# Altium integrated library Silicon Labs Small Form Factor MCUs.IntLib: 100 symbols (part 2 of 5)
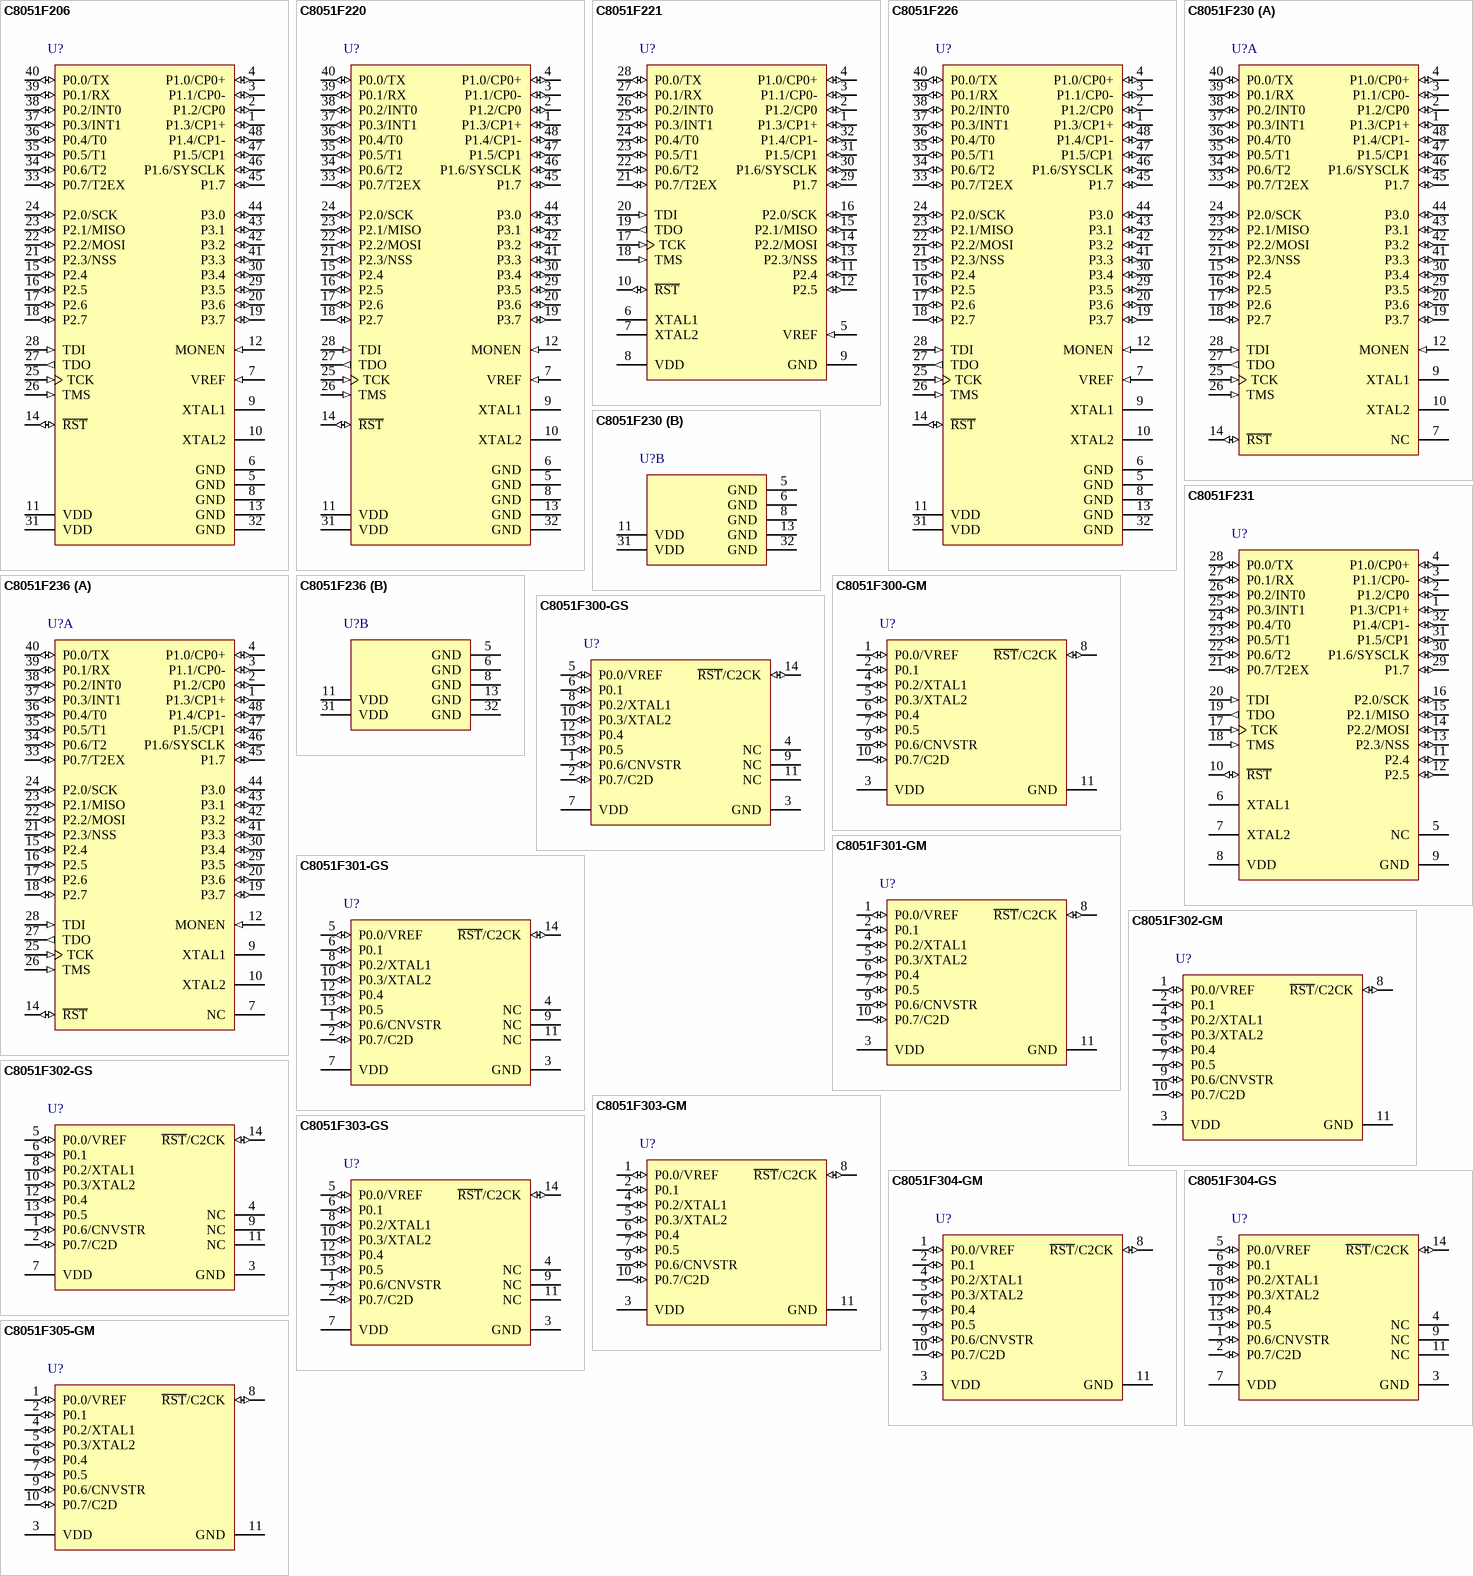
[diagram p5: symbols C8051F206 to C8051F305-GM]

## C8051F305-GM
designator U?
Mixed Signal ISP Flash MCU Family, 25 MHz, 0.25 kB RAM, 2 kB Flash, -40 to 85 degC, 11-pin QFN; Manufacturer: Silicon Labs; PartNumber: C8051F305-GM; AEC-Q100: FALSE; Comparators: 1; Debug Interface: C2; Dig I/O Pins: 8; Flash: 2 kB; Internal Osc. Accuracy: +/-20%; MCU Core: 8051; MHz: 25; PCA Channels: 3; RAM: 0.25 kB; Sub-Family: Small Form Factor MCUs; DatasheetVersion: Rev. 2.9; PackageReference: QFN-11; PackageDescription: 11-Pin Quad-Flat No-Leads Package, Body 3 x 3 mm, Pitch 0.5 mm; Supplier 1: Digi-Key; Supplier Part Number 1: 336-1251-ND; Supplier 2: Mouser; Supplier Part Number 2: 634-C8051F305-GM; Temp Sensor: FALSE; Timers (16-bit): 3; Mounting Technology: Surface Mount; Code_JEDEC: MO-243; Code_IPC: J-STD-020C; ComponentLink1Description: Manufacturer URL; ComponentLink1URL: http://www.silabs.com/; ComponentLink2Description: Datasheet; ComponentLink2URL: http://www.silabs.com/Support Documents/TechnicalDocs/C8051F30x.pdf; ComponentLink3Description: Package Specification; ComponentLink3URL: http://www.silabs.com/Support%20Documents/TechnicalDocs/Si3462.pdf
footprint SLAB-QFN-11-1350x2250TP_N (QFN, 11-Leads, Body 3x3mm, Pitch 0.5mm, Thermal Pad 3x1.35mm, IPC Medium Density)
footprint SLAB-QFN-11-1350x2250TP_L (QFN, 11-Leads, Body 3x3mm, Pitch 0.5mm, Thermal Pad 3x1.35mm, IPC High Density)
footprint SLAB-QFN-11-1350x2250TP_M (QFN, 11-Leads, Body 3x3mm, Pitch 0.5mm, Thermal Pad 3x1.35mm, IPC Low Density)
pins: 1 P0.0/VREF (io), 2 P0.1 (io) "Port 0.1.", 3 VDD (power) "Power Supply Voltage", 4 P0.2/XTAL1 (io), 5 P0.3/XTAL2 (io), 6 P0.4 (io) "Port 0.4.", 7 P0.5 (io) "Port 0.5.", 8 ~{RST}/C2CK (io), 9 P0.6/CNVSTR (io), 10 P0.7/C2D (io), 11 GND (power) "Ground."

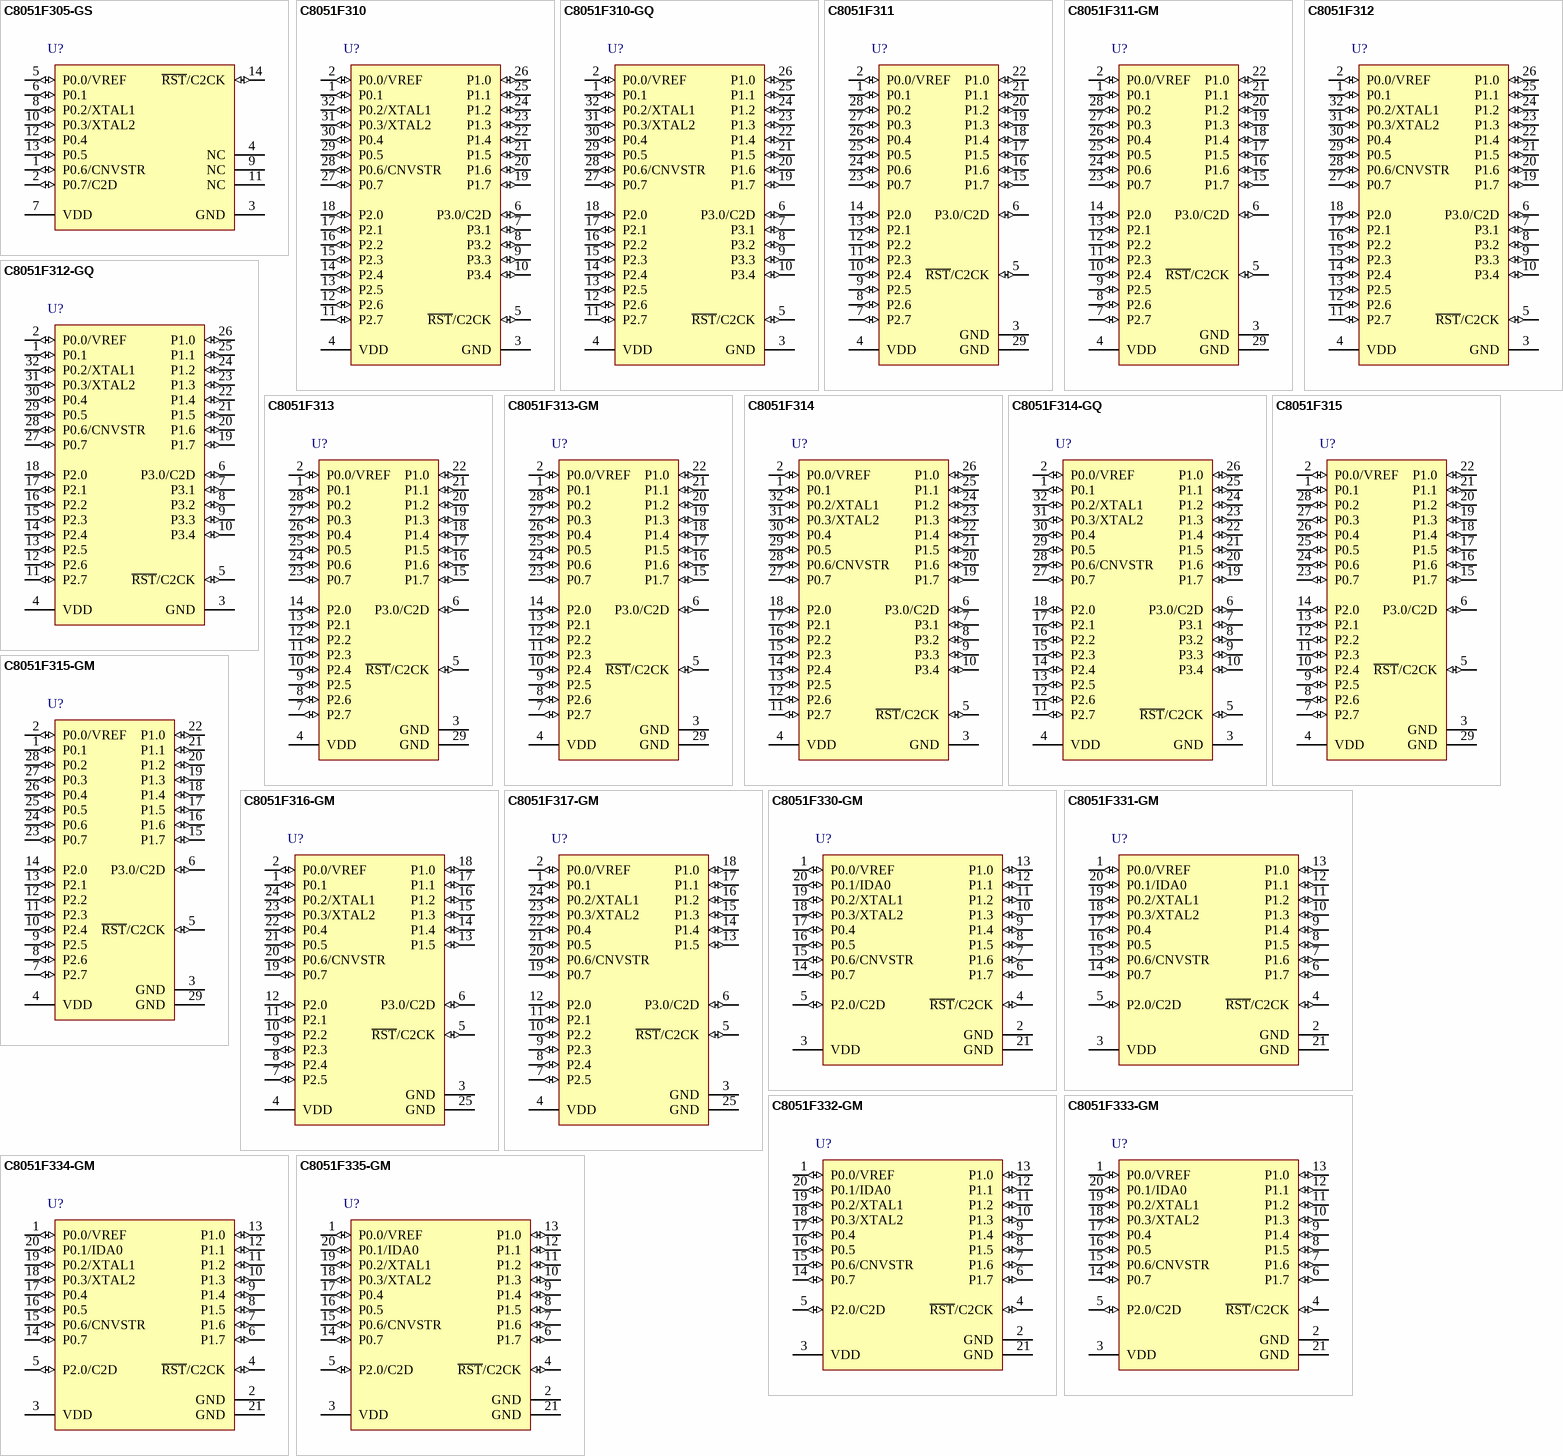
[diagram p1: symbols C8051F305-GS to C8051F335-GM]

## C8051F305-GS
designator U?
Mixed Signal ISP Flash MCU Family, 25 MHz, 0.25 kB RAM, 2 kB Flash, -40 to 85 degC, 14-pin SOIC; Manufacturer: Silicon Labs; PartNumber: C8051F305-GS; AEC-Q100: FALSE; Comparators: 1; Debug Interface: C2; Dig I/O Pins: 8; Flash: 2 kB; Internal Osc. Accuracy: +/-20%; MCU Core: 8051; MHz: 25; PCA Channels: 3; RAM: 0.25 kB; Sub-Family: Small Form Factor MCUs; DatasheetVersion: Rev. 2.9; PackageReference: SOIC-14; PackageDescription: 14-Pin Small-Outline Integrated Circuit, Body 8.65 x 3.9 mm, Pitch 1.27 mm; Supplier 1: Digi-Key; Supplier Part Number 1: 336-1540-5-ND; Supplier 2: Mouser; Supplier Part Number 2: 634-C8051F305-GS; Temp Sensor: FALSE; Timers (16-bit): 3; Mounting Technology: Surface Mount; Code_JEDEC: MS012; Code_IPC: J-STD-020; ComponentLink1Description: Manufacturer URL; ComponentLink1URL: http://www.silabs.com/; ComponentLink2Description: Datasheet; ComponentLink2URL: http://www.silabs.com/Support Documents/TechnicalDocs/C8051F30x.pdf; ComponentLink3Description: Package Specification; ComponentLink3URL: http://www.silabs.com/Support Documents/TechnicalDocs/C8051T60x.pdf
footprint SLAB-SOIC-14_N (SOIC, 14-Leads, Body 8.65x3.9mm, Pitch 1.27mm, IPC Medium Density)
footprint SLAB-SOIC-14_L (SOIC, 14-Leads, Body 8.65x3.9mm, Pitch 1.27mm, IPC High Density)
footprint SLAB-SOIC-14_M (SOIC, 14-Leads, Body 8.65x3.9mm, Pitch 1.27mm, IPC Low Density)
pins: 1 P0.6/CNVSTR (io), 2 P0.7/C2D (io), 3 GND (power) "Ground.", 4 NC, 5 P0.0/VREF (io), 6 P0.1 (io) "Port 0.1. See Section 12 for complete description.", 7 VDD (power) "Power Supply Voltage.", 8 P0.2/XTAL1 (io), 9 NC, 10 P0.3/XTAL2 (io), 11 NC, 12 P0.4 (io) "Port 0.4. See Section 12 for complete description.", 13 P0.5 (io) "Port 0.5. See Section 12 for complete description.", 14 ~{RST}/C2CK (io)

## C8051F310
designator U?
ISP Flash MCU Family, 25 MHz, 1.25 kB RAM, 16 kB Flash, -40 to 85 degC, 32-pin QFP; Manufacturer: Silicon Labs; PartNumber: C8051F310; AEC-Q100: FALSE; Comparators: 2; Debug Interface: C2; Dig I/O Pins: 29; Flash: 16 kB; Internal Osc. Accuracy: +/-2%; MCU Core: 8051; MHz: 25; PCA Channels: 5; RAM: 1.25 kB; Temp Sensor: TRUE; Timers (16-bit): 4; Sub-Family: Small Form Factor MCUs; DatasheetVersion: Rev. 1.7; PackageReference: LQFP-32; PackageDescription: 32-Pin Low-Profile Quad Flat Pack, Body 7 x 7 mm, Pitch 0.8 mm; Supplier 1: Digi-Key; Supplier Part Number 1: C8051F310-ND; Supplier 2: Mouser; Supplier Part Number 2: 634-C8051F310; Mounting Technology: Surface Mount; Code_JEDEC: MS-026; Code_IPC: J-STD-020; ComponentLink1Description: Manufacturer URL; ComponentLink1URL: http://www.silabs.com/; ComponentLink2Description: Datasheet; ComponentLink2URL: http://www.silabs.com/Support Documents/TechnicalDocs/C8051F31x.pdf; ComponentLink3Description: Package Specification; ComponentLink3URL: http://www.silabs.com/Support%20Documents/TechnicalDocs/C8051F38x.pdf
footprint SLAB-LQFP-32_N (QFP, 32-Leads, Body 7x7mm, Pitch 0.8mm, IPC Medium Density)
footprint SLAB-LQFP-32_L (QFP, 32-Leads, Body 7x7mm, Pitch 0.8mm, IPC High Density)
footprint SLAB-LQFP-32_M (QFP, 32-Leads, Body 7x7mm, Pitch 0.8mm, IPC Low Density)
pins: 1 P0.1 (io) "Port 0.1.", 2 P0.0/VREF (io), 3 GND (power) "Ground.", 4 VDD (power) "Power Supply Voltage.", 5 ~{RST}/C2CK (io), 6 P3.0/C2D (io), 7 P3.1 (io) "Port 3.1.", 8 P3.2 (io) "Port 3.2.", 9 P3.3 (io) "Port 3.3.", 10 P3.4 (io) "Port 3.4.", 11 P2.7 (io) "Port 2.7.", 12 P2.6 (io) "Port 2.6.", 13 P2.5 (io) "Port 2.5.", 14 P2.4 (io) "Port 2.4.", 15 P2.3 (io) "Port 2.3.", 16 P2.2 (io) "Port 2.2.", 17 P2.1 (io) "Port 2.1.", 18 P2.0 (io) "Port 2.0.", 19 P1.7 (io) "Port 1.7.", 20 P1.6 (io) "Port 1.6.", 21 P1.5 (io) "Port 1.5.", 22 P1.4 (io) "Port 1.4.", 23 P1.3 (io) "Port 1.3.", 24 P1.2 (io) "Port 1.2.", 25 P1.1 (io) "Port 1.1.", 26 P1.0 (io) "Port 1.0.", 27 P0.7 (io) "Port 0.7.", 28 P0.6/CNVSTR (io), 29 P0.5 (io) "Port 0.5.", 30 P0.4 (io) "Port 0.4.", 31 P0.3/XTAL2 (io), 32 P0.2/XTAL1 (io)

## C8051F310-GQ
designator U?
ISP Flash MCU Family, 25 MHz, 1.25 kB RAM, 16 kB Flash, -40 to 85 degC, 32-pin QFP; Manufacturer: Silicon Labs; PartNumber: C8051F310-GQ; AEC-Q100: FALSE; Comparators: 2; Debug Interface: C2; Dig I/O Pins: 29; Flash: 16 kB; Internal Osc. Accuracy: +/-2%; MCU Core: 8051; MHz: 25; PCA Channels: 5; RAM: 1.25 kB; Temp Sensor: TRUE; Timers (16-bit): 4; Sub-Family: Small Form Factor MCUs; DatasheetVersion: Rev. 1.7; PackageReference: LQFP-32; PackageDescription: 32-Pin Low-Profile Quad Flat Pack, Body 7 x 7 mm, Pitch 0.8 mm; Supplier 1: Digi-Key; Supplier Part Number 1: 336-1252-ND; Supplier 2: Farnell; Supplier Part Number 2: 1528462; Supplier 3: Farnell; Supplier Part Number 3: 9685901; Supplier 4: Mouser; Supplier Part Number 4: 634-C8051F310-GQ; Mounting Technology: Surface Mount; Code_JEDEC: MS-026; Code_IPC: J-STD-020; ComponentLink1Description: Manufacturer URL; ComponentLink1URL: http://www.silabs.com/; ComponentLink2Description: Datasheet; ComponentLink2URL: http://www.silabs.com/Support Documents/TechnicalDocs/C8051F31x.pdf; ComponentLink3Description: Package Specification; ComponentLink3URL: http://www.silabs.com/Support%20Documents/TechnicalDocs/C8051F38x.pdf
footprint SLAB-LQFP-32_N (QFP, 32-Leads, Body 7x7mm, Pitch 0.8mm, IPC Medium Density)
footprint SLAB-LQFP-32_L (QFP, 32-Leads, Body 7x7mm, Pitch 0.8mm, IPC High Density)
footprint SLAB-LQFP-32_M (QFP, 32-Leads, Body 7x7mm, Pitch 0.8mm, IPC Low Density)
pins: 1 P0.1 (io) "Port 0.1.", 2 P0.0/VREF (io), 3 GND (power) "Ground.", 4 VDD (power) "Power Supply Voltage.", 5 ~{RST}/C2CK (io), 6 P3.0/C2D (io), 7 P3.1 (io) "Port 3.1.", 8 P3.2 (io) "Port 3.2.", 9 P3.3 (io) "Port 3.3.", 10 P3.4 (io) "Port 3.4.", 11 P2.7 (io) "Port 2.7.", 12 P2.6 (io) "Port 2.6.", 13 P2.5 (io) "Port 2.5.", 14 P2.4 (io) "Port 2.4.", 15 P2.3 (io) "Port 2.3.", 16 P2.2 (io) "Port 2.2.", 17 P2.1 (io) "Port 2.1.", 18 P2.0 (io) "Port 2.0.", 19 P1.7 (io) "Port 1.7.", 20 P1.6 (io) "Port 1.6.", 21 P1.5 (io) "Port 1.5.", 22 P1.4 (io) "Port 1.4.", 23 P1.3 (io) "Port 1.3.", 24 P1.2 (io) "Port 1.2.", 25 P1.1 (io) "Port 1.1.", 26 P1.0 (io) "Port 1.0.", 27 P0.7 (io) "Port 0.7.", 28 P0.6/CNVSTR (io), 29 P0.5 (io) "Port 0.5.", 30 P0.4 (io) "Port 0.4.", 31 P0.3/XTAL2 (io), 32 P0.2/XTAL1 (io)

## C8051F311
designator U?
ISP Flash MCU Family, 25 MHz, 1.25 kB RAM, 16 kB Flash, -40 to 85 degC, 28-pin QFN; Manufacturer: Silicon Labs; PartNumber: C8051F311; AEC-Q100: FALSE; Comparators: 2; Debug Interface: C2; Dig I/O Pins: 25; Flash: 16 kB; Internal Osc. Accuracy: +/-2%; MCU Core: 8051; PCA Channels: 5; RAM: 1.25 kB; Temp Sensor: TRUE; Timers (16-bit): 4; Sub-Family: Small Form Factor MCUs; DatasheetVersion: Rev. 1.7; PackageReference: QFN-28; PackageDescription: 28-Pin Quad-Flat No-Leads Package, Body 5 x 5 mm, Pitch 0.5 mm; Supplier 1: Digi-Key; Supplier Part Number 1: C8051F311-ND; Supplier 2: Mouser; Supplier Part Number 2: 634-C8051F311; MHz: 25; Mounting Technology: Surface Mount; ComponentLink1Description: Manufacturer URL; ComponentLink1URL: http://www.silabs.com/; ComponentLink2Description: Datasheet; ComponentLink2URL: http://www.silabs.com/Support Documents/TechnicalDocs/C8051F31x.pdf; ComponentLink3Description: Package Specification; ComponentLink3URL: http://www.silabs.com/Support%20Documents/TechnicalDocs/C8051F31x.pdf
footprint SLAB-QFN-28-3125x3125TP_B_V (QFN, 28-Leads, Body 5x5mm, Pitch 0.5mm, Thermal Pad 3.15x3.15mm)
pins: 1 P0.1 (io) "Port 0.1. See Section 13 for a complete description.", 2 P0.0/VREF (io), 3 GND (power) "Ground.", 4 VDD (power) "Power Supply Voltage.", 5 ~{RST}/C2CK (io), 6 P3.0/C2D (io) "2.7-3.6 V Core Supply Voltage Input. 3.3 V Voltage Regulator Output. See Section 5.", 7 P2.7 (io) "Port 2.7. See Section 13 for a complete description.", 8 P2.6 (io) "Port 2.6. See Section 13 for a complete description.", 9 P2.5 (io) "Port 2.5. See Section 13 for a complete description.", 10 P2.4 (io) "Port 2.4. See Section 13 for a complete description.", 11 P2.3 (io) "Port 2.3. See Section 13 for a complete description.", 12 P2.2 (io) "Port 2.2. See Section 13 for a complete description.", 13 P2.1 (io) "Port 2.1. See Section 13 for a complete description.", 14 P2.0 (io) "Port 2.0. See Section 13 for a complete description.", 15 P1.7 (io) "Port 1.7. See Section 13 for a complete description.", 16 P1.6 (io) "Port 1.6. See Section 13 for a complete description.", 17 P1.5 (io) "Port 1.5. See Section 13 for a complete description.", 18 P1.4 (io) "Port 1.4. See Section 13 for a complete description.", 19 P1.3 (io) "Port 1.3. See Section 13 for a complete description.", 20 P1.2 (io) "Port 1.2. See Section 13 for a complete description.", 21 P1.1 (io) "Port 1.1. See Section 13 for a complete description.", 22 P1.0 (io) "Port 1.0. See Section 13 for a complete description.", 23 P0.7 (io) "Port 0.7. See Section 13 for a complete description.", 24 P0.6 (io) "Port 0.6. See Section 13 for a complete description.", 25 P0.5 (io) "Port 0.5. See Section 13 for a complete description.", 26 P0.4 (io) "Port 0.4. See Section 13 for a complete description.", 27 P0.3 (io) "Port 0.3. See Section 13 for a complete description.", 28 P0.2 (io) "Port 0.2. See Section 13 for a complete description.", 29 GND (power)

## C8051F311-GM
designator U?
ISP Flash MCU Family, 25 MHz, 1.25 kB RAM, 16 kB Flash, -40 to 85 degC, 28-pin QFN; Manufacturer: Silicon Labs; PartNumber: C8051F311-GM; AEC-Q100: FALSE; Comparators: 2; Debug Interface: C2; Dig I/O Pins: 25; Flash: 16 kB; Internal Osc. Accuracy: +/-2%; MCU Core: 8051; PCA Channels: 5; RAM: 1.25 kB; Temp Sensor: TRUE; Timers (16-bit): 4; Sub-Family: Small Form Factor MCUs; DatasheetVersion: Rev. 1.7; PackageReference: QFN-28; PackageDescription: 28-Pin Quad-Flat No-Leads Package, Body 5 x 5 mm, Pitch 0.5 mm; Supplier 1: Digi-Key; Supplier Part Number 1: 336-1254-ND; Supplier 2: Farnell; Supplier Part Number 2: 9685910; Supplier 3: Newark; Supplier Part Number 3: 96K8389; Supplier 4: Mouser; Supplier Part Number 4: 634-C8051F311-GM; MHz: 25; Mounting Technology: Surface Mount; ComponentLink1Description: Manufacturer URL; ComponentLink1URL: http://www.silabs.com/; ComponentLink2Description: Datasheet; ComponentLink2URL: http://www.silabs.com/Support Documents/TechnicalDocs/C8051F31x.pdf; ComponentLink3Description: Package Specification; ComponentLink3URL: http://www.silabs.com/Support%20Documents/TechnicalDocs/C8051F31x.pdf
footprint SLAB-QFN-28-3125x3125TP_B_V (QFN, 28-Leads, Body 5x5mm, Pitch 0.5mm, Thermal Pad 3.15x3.15mm)
pins: 1 P0.1 (io) "Port 0.1. See Section 13 for a complete description.", 2 P0.0/VREF (io), 3 GND (power) "Ground.", 4 VDD (power) "Power Supply Voltage.", 5 ~{RST}/C2CK (io), 6 P3.0/C2D (io) "2.7-3.6 V Core Supply Voltage Input. 3.3 V Voltage Regulator Output. See Section 5.", 7 P2.7 (io) "Port 2.7. See Section 13 for a complete description.", 8 P2.6 (io) "Port 2.6. See Section 13 for a complete description.", 9 P2.5 (io) "Port 2.5. See Section 13 for a complete description.", 10 P2.4 (io) "Port 2.4. See Section 13 for a complete description.", 11 P2.3 (io) "Port 2.3. See Section 13 for a complete description.", 12 P2.2 (io) "Port 2.2. See Section 13 for a complete description.", 13 P2.1 (io) "Port 2.1. See Section 13 for a complete description.", 14 P2.0 (io) "Port 2.0. See Section 13 for a complete description.", 15 P1.7 (io) "Port 1.7. See Section 13 for a complete description.", 16 P1.6 (io) "Port 1.6. See Section 13 for a complete description.", 17 P1.5 (io) "Port 1.5. See Section 13 for a complete description.", 18 P1.4 (io) "Port 1.4. See Section 13 for a complete description.", 19 P1.3 (io) "Port 1.3. See Section 13 for a complete description.", 20 P1.2 (io) "Port 1.2. See Section 13 for a complete description.", 21 P1.1 (io) "Port 1.1. See Section 13 for a complete description.", 22 P1.0 (io) "Port 1.0. See Section 13 for a complete description.", 23 P0.7 (io) "Port 0.7. See Section 13 for a complete description.", 24 P0.6 (io) "Port 0.6. See Section 13 for a complete description.", 25 P0.5 (io) "Port 0.5. See Section 13 for a complete description.", 26 P0.4 (io) "Port 0.4. See Section 13 for a complete description.", 27 P0.3 (io) "Port 0.3. See Section 13 for a complete description.", 28 P0.2 (io) "Port 0.2. See Section 13 for a complete description.", 29 GND (power)

## C8051F312
designator U?
ISP Flash MCU Family, 25 MHz, 1.25 kB RAM, 8 kB Flash, -40 to 85 degC, 32-pin QFP; Manufacturer: Silicon Labs; PartNumber: C8051F312; AEC-Q100: FALSE; Comparators: 2; Debug Interface: C2; Dig I/O Pins: 29; Flash: 8 kB; Internal Osc. Accuracy: +/-2%; MCU Core: 8051; MHz: 25; PCA Channels: 5; RAM: 1.25 kB; Temp Sensor: TRUE; Timers (16-bit): 4; Sub-Family: Small Form Factor MCUs; DatasheetVersion: Rev. 1.7; PackageReference: LQFP-32; PackageDescription: 32-Pin Low-Profile Quad Flat Pack, Body 7 x 7 mm, Pitch 0.8 mm; Supplier 1: Digi-Key; Supplier Part Number 1: 336-1151-ND; Supplier 2: Mouser; Supplier Part Number 2: 634-C8051F312; Mounting Technology: Surface Mount; Code_JEDEC: MS-026; Code_IPC: J-STD-020; ComponentLink1Description: Manufacturer URL; ComponentLink1URL: http://www.silabs.com/; ComponentLink2Description: Datasheet; ComponentLink2URL: http://www.silabs.com/Support Documents/TechnicalDocs/C8051F31x.pdf; ComponentLink3Description: Package Specification; ComponentLink3URL: http://www.silabs.com/Support%20Documents/TechnicalDocs/C8051F38x.pdf
footprint SLAB-LQFP-32_N (QFP, 32-Leads, Body 7x7mm, Pitch 0.8mm, IPC Medium Density)
footprint SLAB-LQFP-32_L (QFP, 32-Leads, Body 7x7mm, Pitch 0.8mm, IPC High Density)
footprint SLAB-LQFP-32_M (QFP, 32-Leads, Body 7x7mm, Pitch 0.8mm, IPC Low Density)
pins: 1 P0.1 (io) "Port 0.1.", 2 P0.0/VREF (io), 3 GND (power) "Ground.", 4 VDD (power) "Power Supply Voltage.", 5 ~{RST}/C2CK (io), 6 P3.0/C2D (io), 7 P3.1 (io) "Port 3.1.", 8 P3.2 (io) "Port 3.2.", 9 P3.3 (io) "Port 3.3.", 10 P3.4 (io) "Port 3.4.", 11 P2.7 (io) "Port 2.7.", 12 P2.6 (io) "Port 2.6.", 13 P2.5 (io) "Port 2.5.", 14 P2.4 (io) "Port 2.4.", 15 P2.3 (io) "Port 2.3.", 16 P2.2 (io) "Port 2.2.", 17 P2.1 (io) "Port 2.1.", 18 P2.0 (io) "Port 2.0.", 19 P1.7 (io) "Port 1.7.", 20 P1.6 (io) "Port 1.6.", 21 P1.5 (io) "Port 1.5.", 22 P1.4 (io) "Port 1.4.", 23 P1.3 (io) "Port 1.3.", 24 P1.2 (io) "Port 1.2.", 25 P1.1 (io) "Port 1.1.", 26 P1.0 (io) "Port 1.0.", 27 P0.7 (io) "Port 0.7.", 28 P0.6/CNVSTR (io), 29 P0.5 (io) "Port 0.5.", 30 P0.4 (io) "Port 0.4.", 31 P0.3/XTAL2 (io), 32 P0.2/XTAL1 (io)

## C8051F312-GQ
designator U?
ISP Flash MCU Family, 25 MHz, 1.25 kB RAM, 8 kB Flash, -40 to 85 degC, 32-pin QFP; Manufacturer: Silicon Labs; PartNumber: C8051F312-GQ; AEC-Q100: FALSE; Comparators: 2; Debug Interface: C2; Dig I/O Pins: 29; Flash: 8 kB; Internal Osc. Accuracy: +/-2%; MCU Core: 8051; MHz: 25; PCA Channels: 5; RAM: 1.25 kB; Temp Sensor: TRUE; Timers (16-bit): 4; Sub-Family: Small Form Factor MCUs; DatasheetVersion: Rev. 1.7; PackageReference: LQFP-32; PackageDescription: 32-Pin Low-Profile Quad Flat Pack, Body 7 x 7 mm, Pitch 0.8 mm; Supplier 1: Digi-Key; Supplier Part Number 1: 336-1255-ND; Supplier 2: Farnell; Supplier Part Number 2: 1291502; Supplier 3: Mouser; Supplier Part Number 3: 634-C8051F312-GQ; Mounting Technology: Surface Mount; Code_JEDEC: MS-026; Code_IPC: J-STD-020; ComponentLink1Description: Manufacturer URL; ComponentLink1URL: http://www.silabs.com/; ComponentLink2Description: Datasheet; ComponentLink2URL: http://www.silabs.com/Support Documents/TechnicalDocs/C8051F31x.pdf; ComponentLink3Description: Package Specification; ComponentLink3URL: http://www.silabs.com/Support%20Documents/TechnicalDocs/C8051F38x.pdf
footprint SLAB-LQFP-32_N (QFP, 32-Leads, Body 7x7mm, Pitch 0.8mm, IPC Medium Density)
footprint SLAB-LQFP-32_L (QFP, 32-Leads, Body 7x7mm, Pitch 0.8mm, IPC High Density)
footprint SLAB-LQFP-32_M (QFP, 32-Leads, Body 7x7mm, Pitch 0.8mm, IPC Low Density)
pins: 1 P0.1 (io) "Port 0.1.", 2 P0.0/VREF (io), 3 GND (power) "Ground.", 4 VDD (power) "Power Supply Voltage.", 5 ~{RST}/C2CK (io), 6 P3.0/C2D (io), 7 P3.1 (io) "Port 3.1.", 8 P3.2 (io) "Port 3.2.", 9 P3.3 (io) "Port 3.3.", 10 P3.4 (io) "Port 3.4.", 11 P2.7 (io) "Port 2.7.", 12 P2.6 (io) "Port 2.6.", 13 P2.5 (io) "Port 2.5.", 14 P2.4 (io) "Port 2.4.", 15 P2.3 (io) "Port 2.3.", 16 P2.2 (io) "Port 2.2.", 17 P2.1 (io) "Port 2.1.", 18 P2.0 (io) "Port 2.0.", 19 P1.7 (io) "Port 1.7.", 20 P1.6 (io) "Port 1.6.", 21 P1.5 (io) "Port 1.5.", 22 P1.4 (io) "Port 1.4.", 23 P1.3 (io) "Port 1.3.", 24 P1.2 (io) "Port 1.2.", 25 P1.1 (io) "Port 1.1.", 26 P1.0 (io) "Port 1.0.", 27 P0.7 (io) "Port 0.7.", 28 P0.6/CNVSTR (io), 29 P0.5 (io) "Port 0.5.", 30 P0.4 (io) "Port 0.4.", 31 P0.3/XTAL2 (io), 32 P0.2/XTAL1 (io)

## C8051F313
designator U?
ISP Flash MCU Family, 25 MHz, 1.25 kB RAM, 8 kB Flash, -40 to 85 degC, 28-pin QFN; Manufacturer: Silicon Labs; PartNumber: C8051F313; AEC-Q100: FALSE; Comparators: 2; Debug Interface: C2; Dig I/O Pins: 25; Flash: 8 kB; Internal Osc. Accuracy: +/-2%; MCU Core: 8051; PCA Channels: 5; RAM: 1.25 kB; Temp Sensor: TRUE; Timers (16-bit): 4; Sub-Family: Small Form Factor MCUs; DatasheetVersion: Rev. 1.7; PackageReference: QFN-28; PackageDescription: 28-Pin Quad-Flat No-Leads Package, Body 5 x 5 mm, Pitch 0.5 mm; Supplier 1: Digi-Key; Supplier Part Number 1: 336-1152-ND; Supplier 2: Mouser; Supplier Part Number 2: 634-C8051F313; MHz: 25; Mounting Technology: Surface Mount; ComponentLink1Description: Manufacturer URL; ComponentLink1URL: http://www.silabs.com/; ComponentLink2Description: Datasheet; ComponentLink2URL: http://www.silabs.com/Support Documents/TechnicalDocs/C8051F31x.pdf; ComponentLink3Description: Package Specification; ComponentLink3URL: http://www.silabs.com/Support%20Documents/TechnicalDocs/C8051F31x.pdf
footprint SLAB-QFN-28-3125x3125TP_B_V (QFN, 28-Leads, Body 5x5mm, Pitch 0.5mm, Thermal Pad 3.15x3.15mm)
pins: 1 P0.1 (io) "Port 0.1. See Section 13 for a complete description.", 2 P0.0/VREF (io), 3 GND (power) "Ground.", 4 VDD (power) "Power Supply Voltage.", 5 ~{RST}/C2CK (io), 6 P3.0/C2D (io) "2.7-3.6 V Core Supply Voltage Input. 3.3 V Voltage Regulator Output. See Section 5.", 7 P2.7 (io) "Port 2.7. See Section 13 for a complete description.", 8 P2.6 (io) "Port 2.6. See Section 13 for a complete description.", 9 P2.5 (io) "Port 2.5. See Section 13 for a complete description.", 10 P2.4 (io) "Port 2.4. See Section 13 for a complete description.", 11 P2.3 (io) "Port 2.3. See Section 13 for a complete description.", 12 P2.2 (io) "Port 2.2. See Section 13 for a complete description.", 13 P2.1 (io) "Port 2.1. See Section 13 for a complete description.", 14 P2.0 (io) "Port 2.0. See Section 13 for a complete description.", 15 P1.7 (io) "Port 1.7. See Section 13 for a complete description.", 16 P1.6 (io) "Port 1.6. See Section 13 for a complete description.", 17 P1.5 (io) "Port 1.5. See Section 13 for a complete description.", 18 P1.4 (io) "Port 1.4. See Section 13 for a complete description.", 19 P1.3 (io) "Port 1.3. See Section 13 for a complete description.", 20 P1.2 (io) "Port 1.2. See Section 13 for a complete description.", 21 P1.1 (io) "Port 1.1. See Section 13 for a complete description.", 22 P1.0 (io) "Port 1.0. See Section 13 for a complete description.", 23 P0.7 (io) "Port 0.7. See Section 13 for a complete description.", 24 P0.6 (io) "Port 0.6. See Section 13 for a complete description.", 25 P0.5 (io) "Port 0.5. See Section 13 for a complete description.", 26 P0.4 (io) "Port 0.4. See Section 13 for a complete description.", 27 P0.3 (io) "Port 0.3. See Section 13 for a complete description.", 28 P0.2 (io) "Port 0.2. See Section 13 for a complete description.", 29 GND (power)

## C8051F313-GM
designator U?
ISP Flash MCU Family, 25 MHz, 1.25 kB RAM, 8 kB Flash, -40 to 85 degC, 28-pin QFN; Manufacturer: Silicon Labs; PartNumber: C8051F313-GM; AEC-Q100: FALSE; Comparators: 2; Debug Interface: C2; Dig I/O Pins: 25; Flash: 8 kB; Internal Osc. Accuracy: +/-2%; MCU Core: 8051; PCA Channels: 5; RAM: 1.25 kB; Temp Sensor: TRUE; Timers (16-bit): 4; Sub-Family: Small Form Factor MCUs; DatasheetVersion: Rev. 1.7; PackageReference: QFN-28; PackageDescription: 28-Pin Quad-Flat No-Leads Package, Body 5 x 5 mm, Pitch 0.5 mm; Supplier 1: Digi-Key; Supplier Part Number 1: 336-1256-ND; Supplier 2: Farnell; Supplier Part Number 2: 1291503; Supplier 3: Mouser; Supplier Part Number 3: 634-C8051F313-GM; MHz: 25; Mounting Technology: Surface Mount; ComponentLink1Description: Manufacturer URL; ComponentLink1URL: http://www.silabs.com/; ComponentLink2Description: Datasheet; ComponentLink2URL: http://www.silabs.com/Support Documents/TechnicalDocs/C8051F31x.pdf; ComponentLink3Description: Package Specification; ComponentLink3URL: http://www.silabs.com/Support%20Documents/TechnicalDocs/C8051F31x.pdf
footprint SLAB-QFN-28-3125x3125TP_B_V (QFN, 28-Leads, Body 5x5mm, Pitch 0.5mm, Thermal Pad 3.15x3.15mm)
pins: 1 P0.1 (io) "Port 0.1. See Section 13 for a complete description.", 2 P0.0/VREF (io), 3 GND (power) "Ground.", 4 VDD (power) "Power Supply Voltage.", 5 ~{RST}/C2CK (io), 6 P3.0/C2D (io) "2.7-3.6 V Core Supply Voltage Input. 3.3 V Voltage Regulator Output. See Section 5.", 7 P2.7 (io) "Port 2.7. See Section 13 for a complete description.", 8 P2.6 (io) "Port 2.6. See Section 13 for a complete description.", 9 P2.5 (io) "Port 2.5. See Section 13 for a complete description.", 10 P2.4 (io) "Port 2.4. See Section 13 for a complete description.", 11 P2.3 (io) "Port 2.3. See Section 13 for a complete description.", 12 P2.2 (io) "Port 2.2. See Section 13 for a complete description.", 13 P2.1 (io) "Port 2.1. See Section 13 for a complete description.", 14 P2.0 (io) "Port 2.0. See Section 13 for a complete description.", 15 P1.7 (io) "Port 1.7. See Section 13 for a complete description.", 16 P1.6 (io) "Port 1.6. See Section 13 for a complete description.", 17 P1.5 (io) "Port 1.5. See Section 13 for a complete description.", 18 P1.4 (io) "Port 1.4. See Section 13 for a complete description.", 19 P1.3 (io) "Port 1.3. See Section 13 for a complete description.", 20 P1.2 (io) "Port 1.2. See Section 13 for a complete description.", 21 P1.1 (io) "Port 1.1. See Section 13 for a complete description.", 22 P1.0 (io) "Port 1.0. See Section 13 for a complete description.", 23 P0.7 (io) "Port 0.7. See Section 13 for a complete description.", 24 P0.6 (io) "Port 0.6. See Section 13 for a complete description.", 25 P0.5 (io) "Port 0.5. See Section 13 for a complete description.", 26 P0.4 (io) "Port 0.4. See Section 13 for a complete description.", 27 P0.3 (io) "Port 0.3. See Section 13 for a complete description.", 28 P0.2 (io) "Port 0.2. See Section 13 for a complete description.", 29 GND (power)

## C8051F314
designator U?
ISP Flash MCU Family, 25 MHz, 1.25 kB RAM, 8 kB Flash, -40 to 85 degC, 32-pin QFP; Manufacturer: Silicon Labs; PartNumber: C8051F314; AEC-Q100: FALSE; Comparators: 2; Debug Interface: C2; Dig I/O Pins: 29; Flash: 8 kB; Internal Osc. Accuracy: +/-2%; MCU Core: 8051; MHz: 25; PCA Channels: 5; RAM: 1.25 kB; Timers (16-bit): 4; Sub-Family: Small Form Factor MCUs; DatasheetVersion: Rev. 1.7; PackageReference: LQFP-32; PackageDescription: 32-Pin Low-Profile Quad Flat Pack, Body 7 x 7 mm, Pitch 0.8 mm; Supplier 1: Digi-Key; Supplier Part Number 1: 336-1153-ND; Supplier 2: Mouser; Supplier Part Number 2: 634-C8051F314; Temp Sensor: FALSE; Mounting Technology: Surface Mount; Code_JEDEC: MS-026; Code_IPC: J-STD-020; ComponentLink1Description: Manufacturer URL; ComponentLink1URL: http://www.silabs.com/; ComponentLink2Description: Datasheet; ComponentLink2URL: http://www.silabs.com/Support Documents/TechnicalDocs/C8051F31x.pdf; ComponentLink3Description: Package Specification; ComponentLink3URL: http://www.silabs.com/Support%20Documents/TechnicalDocs/C8051F38x.pdf
footprint SLAB-LQFP-32_N (QFP, 32-Leads, Body 7x7mm, Pitch 0.8mm, IPC Medium Density)
footprint SLAB-LQFP-32_L (QFP, 32-Leads, Body 7x7mm, Pitch 0.8mm, IPC High Density)
footprint SLAB-LQFP-32_M (QFP, 32-Leads, Body 7x7mm, Pitch 0.8mm, IPC Low Density)
pins: 1 P0.1 (io) "Port 0.1.", 2 P0.0/VREF (io), 3 GND (power) "Ground.", 4 VDD (power) "Power Supply Voltage.", 5 ~{RST}/C2CK (io), 6 P3.0/C2D (io), 7 P3.1 (io) "Port 3.1.", 8 P3.2 (io) "Port 3.2.", 9 P3.3 (io) "Port 3.3.", 10 P3.4 (io) "Port 3.4.", 11 P2.7 (io) "Port 2.7.", 12 P2.6 (io) "Port 2.6.", 13 P2.5 (io) "Port 2.5.", 14 P2.4 (io) "Port 2.4.", 15 P2.3 (io) "Port 2.3.", 16 P2.2 (io) "Port 2.2.", 17 P2.1 (io) "Port 2.1.", 18 P2.0 (io) "Port 2.0.", 19 P1.7 (io) "Port 1.7.", 20 P1.6 (io) "Port 1.6.", 21 P1.5 (io) "Port 1.5.", 22 P1.4 (io) "Port 1.4.", 23 P1.3 (io) "Port 1.3.", 24 P1.2 (io) "Port 1.2.", 25 P1.1 (io) "Port 1.1.", 26 P1.0 (io) "Port 1.0.", 27 P0.7 (io) "Port 0.7.", 28 P0.6/CNVSTR (io), 29 P0.5 (io) "Port 0.5.", 30 P0.4 (io) "Port 0.4.", 31 P0.3/XTAL2 (io), 32 P0.2/XTAL1 (io)

## C8051F314-GQ
designator U?
ISP Flash MCU Family, 25 MHz, 1.25 kB RAM, 8 kB Flash, -40 to 85 degC, 32-pin QFP; Manufacturer: Silicon Labs; PartNumber: C8051F314-GQ; AEC-Q100: FALSE; Comparators: 2; Debug Interface: C2; Dig I/O Pins: 29; Flash: 8 kB; Internal Osc. Accuracy: +/-2%; MCU Core: 8051; MHz: 25; PCA Channels: 5; RAM: 1.25 kB; Timers (16-bit): 4; Sub-Family: Small Form Factor MCUs; DatasheetVersion: Rev. 1.7; PackageReference: LQFP-32; PackageDescription: 32-Pin Low-Profile Quad Flat Pack, Body 7 x 7 mm, Pitch 0.8 mm; Supplier 1: Digi-Key; Supplier Part Number 1: 336-1257-ND; Supplier 2: Farnell; Supplier Part Number 2: 1291504; Supplier 3: Mouser; Supplier Part Number 3: 634-C8051F314-GQ; Temp Sensor: FALSE; Mounting Technology: Surface Mount; Code_JEDEC: MS-026; Code_IPC: J-STD-020; ComponentLink1Description: Manufacturer URL; ComponentLink1URL: http://www.silabs.com/; ComponentLink2Description: Datasheet; ComponentLink2URL: http://www.silabs.com/Support Documents/TechnicalDocs/C8051F31x.pdf; ComponentLink3Description: Package Specification; ComponentLink3URL: http://www.silabs.com/Support%20Documents/TechnicalDocs/C8051F38x.pdf
footprint SLAB-LQFP-32_N (QFP, 32-Leads, Body 7x7mm, Pitch 0.8mm, IPC Medium Density)
footprint SLAB-LQFP-32_L (QFP, 32-Leads, Body 7x7mm, Pitch 0.8mm, IPC High Density)
footprint SLAB-LQFP-32_M (QFP, 32-Leads, Body 7x7mm, Pitch 0.8mm, IPC Low Density)
pins: 1 P0.1 (io) "Port 0.1.", 2 P0.0/VREF (io), 3 GND (power) "Ground.", 4 VDD (power) "Power Supply Voltage.", 5 ~{RST}/C2CK (io), 6 P3.0/C2D (io), 7 P3.1 (io) "Port 3.1.", 8 P3.2 (io) "Port 3.2.", 9 P3.3 (io) "Port 3.3.", 10 P3.4 (io) "Port 3.4.", 11 P2.7 (io) "Port 2.7.", 12 P2.6 (io) "Port 2.6.", 13 P2.5 (io) "Port 2.5.", 14 P2.4 (io) "Port 2.4.", 15 P2.3 (io) "Port 2.3.", 16 P2.2 (io) "Port 2.2.", 17 P2.1 (io) "Port 2.1.", 18 P2.0 (io) "Port 2.0.", 19 P1.7 (io) "Port 1.7.", 20 P1.6 (io) "Port 1.6.", 21 P1.5 (io) "Port 1.5.", 22 P1.4 (io) "Port 1.4.", 23 P1.3 (io) "Port 1.3.", 24 P1.2 (io) "Port 1.2.", 25 P1.1 (io) "Port 1.1.", 26 P1.0 (io) "Port 1.0.", 27 P0.7 (io) "Port 0.7.", 28 P0.6/CNVSTR (io), 29 P0.5 (io) "Port 0.5.", 30 P0.4 (io) "Port 0.4.", 31 P0.3/XTAL2 (io), 32 P0.2/XTAL1 (io)

## C8051F315
designator U?
ISP Flash MCU Family, 25 MHz, 1.25 kB RAM, 8 kB Flash, -40 to 85 degC, 28-pin QFN; Manufacturer: Silicon Labs; PartNumber: C8051F315; AEC-Q100: FALSE; Comparators: 2; Debug Interface: C2; Dig I/O Pins: 25; Flash: 8 kB; Internal Osc. Accuracy: +/-2%; MCU Core: 8051; PCA Channels: 5; RAM: 1.25 kB; Timers (16-bit): 4; Sub-Family: Small Form Factor MCUs; DatasheetVersion: Rev. 1.7; PackageReference: QFN-28; PackageDescription: 28-Pin Quad-Flat No-Leads Package, Body 5 x 5 mm, Pitch 0.5 mm; Supplier 1: Digi-Key; Supplier Part Number 1: 336-1154-ND; Supplier 2: Mouser; Supplier Part Number 2: 634-C8051F315; MHz: 25; Temp Sensor: FALSE; Mounting Technology: Surface Mount; ComponentLink1Description: Manufacturer URL; ComponentLink1URL: http://www.silabs.com/; ComponentLink2Description: Datasheet; ComponentLink2URL: http://www.silabs.com/Support Documents/TechnicalDocs/C8051F31x.pdf; ComponentLink3Description: Package Specification; ComponentLink3URL: http://www.silabs.com/Support%20Documents/TechnicalDocs/C8051F31x.pdf
footprint SLAB-QFN-28-3125x3125TP_B_V (QFN, 28-Leads, Body 5x5mm, Pitch 0.5mm, Thermal Pad 3.15x3.15mm)
pins: 1 P0.1 (io) "Port 0.1. See Section 13 for a complete description.", 2 P0.0/VREF (io), 3 GND (power) "Ground.", 4 VDD (power) "Power Supply Voltage.", 5 ~{RST}/C2CK (io), 6 P3.0/C2D (io) "2.7-3.6 V Core Supply Voltage Input. 3.3 V Voltage Regulator Output. See Section 5.", 7 P2.7 (io) "Port 2.7. See Section 13 for a complete description.", 8 P2.6 (io) "Port 2.6. See Section 13 for a complete description.", 9 P2.5 (io) "Port 2.5. See Section 13 for a complete description.", 10 P2.4 (io) "Port 2.4. See Section 13 for a complete description.", 11 P2.3 (io) "Port 2.3. See Section 13 for a complete description.", 12 P2.2 (io) "Port 2.2. See Section 13 for a complete description.", 13 P2.1 (io) "Port 2.1. See Section 13 for a complete description.", 14 P2.0 (io) "Port 2.0. See Section 13 for a complete description.", 15 P1.7 (io) "Port 1.7. See Section 13 for a complete description.", 16 P1.6 (io) "Port 1.6. See Section 13 for a complete description.", 17 P1.5 (io) "Port 1.5. See Section 13 for a complete description.", 18 P1.4 (io) "Port 1.4. See Section 13 for a complete description.", 19 P1.3 (io) "Port 1.3. See Section 13 for a complete description.", 20 P1.2 (io) "Port 1.2. See Section 13 for a complete description.", 21 P1.1 (io) "Port 1.1. See Section 13 for a complete description.", 22 P1.0 (io) "Port 1.0. See Section 13 for a complete description.", 23 P0.7 (io) "Port 0.7. See Section 13 for a complete description.", 24 P0.6 (io) "Port 0.6. See Section 13 for a complete description.", 25 P0.5 (io) "Port 0.5. See Section 13 for a complete description.", 26 P0.4 (io) "Port 0.4. See Section 13 for a complete description.", 27 P0.3 (io) "Port 0.3. See Section 13 for a complete description.", 28 P0.2 (io) "Port 0.2. See Section 13 for a complete description.", 29 GND (power)

## C8051F315-GM
designator U?
ISP Flash MCU Family, 25 MHz, 1.25 kB RAM, 8 kB Flash, -40 to 85 degC, 28-pin QFN; Manufacturer: Silicon Labs; PartNumber: C8051F315-GM; AEC-Q100: FALSE; Comparators: 2; Debug Interface: C2; Dig I/O Pins: 25; Flash: 8 kB; Internal Osc. Accuracy: +/-2%; MCU Core: 8051; PCA Channels: 5; RAM: 1.25 kB; Timers (16-bit): 4; Sub-Family: Small Form Factor MCUs; DatasheetVersion: Rev. 1.7; PackageReference: QFN-28; PackageDescription: 28-Pin Quad-Flat No-Leads Package, Body 5 x 5 mm, Pitch 0.5 mm; Supplier 1: Digi-Key; Supplier Part Number 1: 336-1258-ND; Supplier 2: Farnell; Supplier Part Number 2: 1291505; Supplier 3: Mouser; Supplier Part Number 3: 634-C8051F315-GM; MHz: 25; Temp Sensor: FALSE; Mounting Technology: Surface Mount; ComponentLink1Description: Manufacturer URL; ComponentLink1URL: http://www.silabs.com/; ComponentLink2Description: Datasheet; ComponentLink2URL: http://www.silabs.com/Support Documents/TechnicalDocs/C8051F31x.pdf; ComponentLink3Description: Package Specification; ComponentLink3URL: http://www.silabs.com/Support%20Documents/TechnicalDocs/C8051F31x.pdf
footprint SLAB-QFN-28-3125x3125TP_B_V (QFN, 28-Leads, Body 5x5mm, Pitch 0.5mm, Thermal Pad 3.15x3.15mm)
pins: 1 P0.1 (io) "Port 0.1. See Section 13 for a complete description.", 2 P0.0/VREF (io), 3 GND (power) "Ground.", 4 VDD (power) "Power Supply Voltage.", 5 ~{RST}/C2CK (io), 6 P3.0/C2D (io) "2.7-3.6 V Core Supply Voltage Input. 3.3 V Voltage Regulator Output. See Section 5.", 7 P2.7 (io) "Port 2.7. See Section 13 for a complete description.", 8 P2.6 (io) "Port 2.6. See Section 13 for a complete description.", 9 P2.5 (io) "Port 2.5. See Section 13 for a complete description.", 10 P2.4 (io) "Port 2.4. See Section 13 for a complete description.", 11 P2.3 (io) "Port 2.3. See Section 13 for a complete description.", 12 P2.2 (io) "Port 2.2. See Section 13 for a complete description.", 13 P2.1 (io) "Port 2.1. See Section 13 for a complete description.", 14 P2.0 (io) "Port 2.0. See Section 13 for a complete description.", 15 P1.7 (io) "Port 1.7. See Section 13 for a complete description.", 16 P1.6 (io) "Port 1.6. See Section 13 for a complete description.", 17 P1.5 (io) "Port 1.5. See Section 13 for a complete description.", 18 P1.4 (io) "Port 1.4. See Section 13 for a complete description.", 19 P1.3 (io) "Port 1.3. See Section 13 for a complete description.", 20 P1.2 (io) "Port 1.2. See Section 13 for a complete description.", 21 P1.1 (io) "Port 1.1. See Section 13 for a complete description.", 22 P1.0 (io) "Port 1.0. See Section 13 for a complete description.", 23 P0.7 (io) "Port 0.7. See Section 13 for a complete description.", 24 P0.6 (io) "Port 0.6. See Section 13 for a complete description.", 25 P0.5 (io) "Port 0.5. See Section 13 for a complete description.", 26 P0.4 (io) "Port 0.4. See Section 13 for a complete description.", 27 P0.3 (io) "Port 0.3. See Section 13 for a complete description.", 28 P0.2 (io) "Port 0.2. See Section 13 for a complete description.", 29 GND (power)

## C8051F316-GM
designator U?
ISP Flash MCU Family, 25 MHz, 1.25 kB RAM, 16 kB Flash, -40 to 85 degC, 24-pin QFN; Manufacturer: Silicon Labs; PartNumber: C8051F316-GM; AEC-Q100: FALSE; Comparators: 2; Debug Interface: C2; Dig I/O Pins: 21; Flash: 16 kB; Internal Osc. Accuracy: +/-2%; MCU Core: 8051; MHz: 25; PCA Channels: 5; RAM: 1.25 kB; Temp Sensor: TRUE; Timers (16-bit): 4; Sub-Family: Small Form Factor MCUs; DatasheetVersion: Rev. 1.7; PackageReference: QFN-24; PackageDescription: 24-Pin Quad-Flat No-Leads Package, Body 4 x 4 mm, Pitch 0.5 mm; Supplier 1: Digi-Key; Supplier Part Number 1: 336-1281-5-ND; Supplier 2: Farnell; Supplier Part Number 2: 1291507; Supplier 3: Mouser; Supplier Part Number 3: 634-C8051F316-GM; Mounting Technology: Surface Mount; ComponentLink1Description: Manufacturer URL; ComponentLink1URL: http://www.silabs.com/; ComponentLink2Description: Datasheet; ComponentLink2URL: http://www.silabs.com/Support Documents/TechnicalDocs/C8051F31x.pdf; ComponentLink3Description: Package Specification; ComponentLink3URL: http://www.silabs.com/Support%20Documents/TechnicalDocs/Si3482.pdf
footprint SLAB-QFN-24-2600x2600TP_V (QFN, 24-Leads, Body 4x4mm, Pitch 0.5mm, Thermal Pad 2.6x2.6mm)
pins: 1 P0.1 (io) "Port 0.1.", 2 P0.0/VREF (io), 3 GND (power) "Ground.", 4 VDD (power) "Power Supply Voltage.", 5 ~{RST}/C2CK (io), 6 P3.0/C2D (io), 7 P2.5 (io) "Port 2.5.", 8 P2.4 (io) "Port 2.4.", 9 P2.3 (io) "Port 2.3.", 10 P2.2 (io) "Port 2.2.", 11 P2.1 (io) "Port 2.1.", 12 P2.0 (io) "Port 2.0.", 13 P1.5 (io) "Port 1.5.", 14 P1.4 (io) "Port 1.4.", 15 P1.3 (io) "Port 1.3.", 16 P1.2 (io) "Port 1.2.", 17 P1.1 (io) "Port 1.1.", 18 P1.0 (io) "Port 1.0.", 19 P0.7 (io) "Port 0.7.", 20 P0.6/CNVSTR (io), 21 P0.5 (io) "Port 0.5.", 22 P0.4 (io) "Port 0.4.", 23 P0.3/XTAL2 (io), 24 P0.2/XTAL1 (io), 25 GND (power)

## C8051F317-GM
designator U?
ISP Flash MCU Family, 25 MHz, 1.25 kB RAM, 16 kB Flash, -40 to 85 degC, 24-pin QFN; Manufacturer: Silicon Labs; PartNumber: C8051F317-GM; AEC-Q100: FALSE; Comparators: 2; Debug Interface: C2; Dig I/O Pins: 21; Flash: 16 kB; Internal Osc. Accuracy: +/-2%; MCU Core: 8051; MHz: 25; PCA Channels: 5; RAM: 1.25 kB; Timers (16-bit): 4; Sub-Family: Small Form Factor MCUs; DatasheetVersion: Rev. 1.7; PackageReference: QFN-24; PackageDescription: 24-Pin Quad-Flat No-Leads Package, Body 4 x 4 mm, Pitch 0.5 mm; Supplier 1: Digi-Key; Supplier Part Number 1: 336-1282-5-ND; Supplier 2: Mouser; Supplier Part Number 2: 634-C8051F317-GM; Temp Sensor: FALSE; Mounting Technology: Surface Mount; ComponentLink1Description: Manufacturer URL; ComponentLink1URL: http://www.silabs.com/; ComponentLink2Description: Datasheet; ComponentLink2URL: http://www.silabs.com/Support Documents/TechnicalDocs/C8051F31x.pdf; ComponentLink3Description: Package Specification; ComponentLink3URL: http://www.silabs.com/Support%20Documents/TechnicalDocs/Si3482.pdf
footprint SLAB-QFN-24-2600x2600TP_V (QFN, 24-Leads, Body 4x4mm, Pitch 0.5mm, Thermal Pad 2.6x2.6mm)
pins: 1 P0.1 (io) "Port 0.1.", 2 P0.0/VREF (io), 3 GND (power) "Ground.", 4 VDD (power) "Power Supply Voltage.", 5 ~{RST}/C2CK (io), 6 P3.0/C2D (io), 7 P2.5 (io) "Port 2.5.", 8 P2.4 (io) "Port 2.4.", 9 P2.3 (io) "Port 2.3.", 10 P2.2 (io) "Port 2.2.", 11 P2.1 (io) "Port 2.1.", 12 P2.0 (io) "Port 2.0.", 13 P1.5 (io) "Port 1.5.", 14 P1.4 (io) "Port 1.4.", 15 P1.3 (io) "Port 1.3.", 16 P1.2 (io) "Port 1.2.", 17 P1.1 (io) "Port 1.1.", 18 P1.0 (io) "Port 1.0.", 19 P0.7 (io) "Port 0.7.", 20 P0.6/CNVSTR (io), 21 P0.5 (io) "Port 0.5.", 22 P0.4 (io) "Port 0.4.", 23 P0.3/XTAL2 (io), 24 P0.2/XTAL1 (io), 25 GND (power)

## C8051F330-GM
designator U?
Mixed-Signal ISP Flash MCU Family, 25 MHz, 0.75 kB RAM, 8 kB Flash, -40 to 85 degC, 20-pin QFN; Manufacturer: Silicon Labs; PartNumber: C8051F330-GM; ADC 1: 10-bit, 16-ch., 200 ksps; AEC-Q100: FALSE; Comparators: 1; DAC: 10-bit, 1-ch.; Debug Interface: C2; Dig I/O Pins: 17; Flash: 8 kB; Internal Osc. Accuracy: +/-2%; MCU Core: 8051; MHz: 25; PCA Channels: 3; RAM: 0.75 kB; Temp Sensor: TRUE; Timers (16-bit): 4; Sub-Family: Small Form Factor MCUs; DatasheetVersion: Rev. 1.7; PackageReference: QFN-20; PackageDescription: 20-Pin Quad-Flat No-Leads Package, Body 4 x 4 mm, Pitch 0.5 mm; Supplier 1: Digi-Key; Supplier Part Number 1: 336-1262-ND; Supplier 2: Farnell; Supplier Part Number 2: 1291513; Supplier 3: Newark; Supplier Part Number 3: 24M1242; Supplier 4: Mouser; Supplier Part Number 4: 634-C8051F330-GM; Mounting Technology: Surface Mount; Code_JEDEC: MO-220; Code_IPC: J-STD-020; ComponentLink1Description: Manufacturer URL; ComponentLink1URL: http://www.silabs.com/; ComponentLink2Description: Datasheet; ComponentLink2URL: http://www.silabs.com/Support Documents/TechnicalDocs/C8051F33x.pdf; ComponentLink3Description: Package Specification; ComponentLink3URL: http://www.silabs.com/Support%20Documents/TechnicalDocs/C8051F80x-83x.pdf
footprint SLAB-QFN-20-2125x2125TP_N (QFN, 20-Leads, Body 4x4mm, Pitch 0.5mm, Thermal Pad 2.13x2.13mm, IPC Medium Density)
footprint SLAB-QFN-20-2125x2125TP_L (QFN, 20-Leads, Body 4x4mm, Pitch 0.5mm, Thermal Pad 2.13x2.13mm, IPC High Density)
footprint SLAB-QFN-20-2125x2125TP_M (QFN, 20-Leads, Body 4x4mm, Pitch 0.5mm, Thermal Pad 2.13x2.13mm, IPC Low Density)
pins: 1 P0.0/VREF (io), 2 GND (power) "Ground.", 3 VDD (power) "Power Supply Voltage.", 4 ~{RST}/C2CK (io), 5 P2.0/C2D (io), 6 P1.7 (io) "Port 1.7.", 7 P1.6 (io) "Port 1.6.", 8 P1.5 (io) "Port 1.5.", 9 P1.4 (io) "Port 1.4.", 10 P1.3 (io) "Port 1.3.", 11 P1.2 (io) "Port 1.2.", 12 P1.1 (io) "Port 1.1.", 13 P1.0 (io) "Port 1.0.", 14 P0.7 (io) "Port 0.7.", 15 P0.6/CNVSTR (io), 16 P0.5 (io) "Port 0.5", 17 P0.4 (io) "Port 0.4.", 18 P0.3/XTAL2 (io), 19 P0.2/XTAL1 (io), 20 P0.1/IDA0 (io), 21 GND (power) "Ground.This ground connection is required. The center pad may optionally be connected to ground also."

## C8051F331-GM
designator U?
Mixed-Signal ISP Flash MCU Family, 25 MHz, 0.75 kB RAM, 8 kB Flash, -40 to 85 degC, 20-pin QFN; Manufacturer: Silicon Labs; PartNumber: C8051F331-GM; AEC-Q100: FALSE; Comparators: 1; Debug Interface: C2; Dig I/O Pins: 17; Flash: 8 kB; Internal Osc. Accuracy: +/-2%; MCU Core: 8051; MHz: 25; PCA Channels: 3; RAM: 0.75 kB; Timers (16-bit): 4; Sub-Family: Small Form Factor MCUs; DatasheetVersion: Rev. 1.7; PackageReference: QFN-20; PackageDescription: 20-Pin Quad-Flat No-Leads Package, Body 4 x 4 mm, Pitch 0.5 mm; Supplier 1: Digi-Key; Supplier Part Number 1: 336-1265-ND; Supplier 2: Farnell; Supplier Part Number 2: 1291514; Supplier 3: Mouser; Supplier Part Number 3: 634-C8051F331-GM; Temp Sensor: FALSE; Mounting Technology: Surface Mount; Code_JEDEC: MO-220; Code_IPC: J-STD-020; ComponentLink1Description: Manufacturer URL; ComponentLink1URL: http://www.silabs.com/; ComponentLink2Description: Datasheet; ComponentLink2URL: http://www.silabs.com/Support Documents/TechnicalDocs/C8051F33x.pdf; ComponentLink3Description: Package Specification; ComponentLink3URL: http://www.silabs.com/Support%20Documents/TechnicalDocs/C8051F80x-83x.pdf
footprint SLAB-QFN-20-2125x2125TP_N (QFN, 20-Leads, Body 4x4mm, Pitch 0.5mm, Thermal Pad 2.13x2.13mm, IPC Medium Density)
footprint SLAB-QFN-20-2125x2125TP_L (QFN, 20-Leads, Body 4x4mm, Pitch 0.5mm, Thermal Pad 2.13x2.13mm, IPC High Density)
footprint SLAB-QFN-20-2125x2125TP_M (QFN, 20-Leads, Body 4x4mm, Pitch 0.5mm, Thermal Pad 2.13x2.13mm, IPC Low Density)
pins: 1 P0.0/VREF (io), 2 GND (power) "Ground.", 3 VDD (power) "Power Supply Voltage.", 4 ~{RST}/C2CK (io), 5 P2.0/C2D (io), 6 P1.7 (io) "Port 1.7.", 7 P1.6 (io) "Port 1.6.", 8 P1.5 (io) "Port 1.5.", 9 P1.4 (io) "Port 1.4.", 10 P1.3 (io) "Port 1.3.", 11 P1.2 (io) "Port 1.2.", 12 P1.1 (io) "Port 1.1.", 13 P1.0 (io) "Port 1.0.", 14 P0.7 (io) "Port 0.7.", 15 P0.6/CNVSTR (io), 16 P0.5 (io) "Port 0.5", 17 P0.4 (io) "Port 0.4.", 18 P0.3/XTAL2 (io), 19 P0.2/XTAL1 (io), 20 P0.1/IDA0 (io), 21 GND (power) "Ground.This ground connection is required. The center pad may optionally be connected to ground also."

## C8051F332-GM
designator U?
Mixed-Signal ISP Flash MCU Family, 25 MHz, 0.75 kB RAM, 4 kB Flash, -40 to 85 degC, 20-pin QFN; Manufacturer: Silicon Labs; PartNumber: C8051F332-GM; ADC 1: 10-bit, 16-ch., 200 ksps; AEC-Q100: FALSE; Comparators: 1; Debug Interface: C2; Dig I/O Pins: 17; Flash: 4 kB; Internal Osc. Accuracy: +/-2%; MCU Core: 8051; MHz: 25; PCA Channels: 3; RAM: 0.75 kB; Temp Sensor: TRUE; Timers (16-bit): 4; Sub-Family: Small Form Factor MCUs; DatasheetVersion: Rev. 1.7; PackageReference: QFN-20; PackageDescription: 20-Pin Quad-Flat No-Leads Package, Body 4 x 4 mm, Pitch 0.5 mm; Supplier 1: Digi-Key; Supplier Part Number 1: 336-1266-ND; Supplier 2: Mouser; Supplier Part Number 2: 634-C8051F332-GM; Mounting Technology: Surface Mount; Code_JEDEC: MO-220; Code_IPC: J-STD-020; ComponentLink1Description: Manufacturer URL; ComponentLink1URL: http://www.silabs.com/; ComponentLink2Description: Datasheet; ComponentLink2URL: http://www.silabs.com/Support Documents/TechnicalDocs/C8051F33x.pdf; ComponentLink3Description: Package Specification; ComponentLink3URL: http://www.silabs.com/Support%20Documents/TechnicalDocs/C8051F80x-83x.pdf
footprint SLAB-QFN-20-2125x2125TP_N (QFN, 20-Leads, Body 4x4mm, Pitch 0.5mm, Thermal Pad 2.13x2.13mm, IPC Medium Density)
footprint SLAB-QFN-20-2125x2125TP_L (QFN, 20-Leads, Body 4x4mm, Pitch 0.5mm, Thermal Pad 2.13x2.13mm, IPC High Density)
footprint SLAB-QFN-20-2125x2125TP_M (QFN, 20-Leads, Body 4x4mm, Pitch 0.5mm, Thermal Pad 2.13x2.13mm, IPC Low Density)
pins: 1 P0.0/VREF (io), 2 GND (power) "Ground.", 3 VDD (power) "Power Supply Voltage.", 4 ~{RST}/C2CK (io), 5 P2.0/C2D (io), 6 P1.7 (io) "Port 1.7.", 7 P1.6 (io) "Port 1.6.", 8 P1.5 (io) "Port 1.5.", 9 P1.4 (io) "Port 1.4.", 10 P1.3 (io) "Port 1.3.", 11 P1.2 (io) "Port 1.2.", 12 P1.1 (io) "Port 1.1.", 13 P1.0 (io) "Port 1.0.", 14 P0.7 (io) "Port 0.7.", 15 P0.6/CNVSTR (io), 16 P0.5 (io) "Port 0.5", 17 P0.4 (io) "Port 0.4.", 18 P0.3/XTAL2 (io), 19 P0.2/XTAL1 (io), 20 P0.1/IDA0 (io), 21 GND (power) "Ground.This ground connection is required. The center pad may optionally be connected to ground also."

## C8051F333-GM
designator U?
Mixed-Signal ISP Flash MCU Family, 25 MHz, 0.75 kB RAM, 4 kB Flash, -40 to 85 degC, 20-pin QFN; Manufacturer: Silicon Labs; PartNumber: C8051F333-GM; AEC-Q100: FALSE; Comparators: 1; Debug Interface: C2; Dig I/O Pins: 17; Flash: 4 kB; Internal Osc. Accuracy: +/-2%; MCU Core: 8051; MHz: 25; PCA Channels: 3; RAM: 0.75 kB; Timers (16-bit): 4; Sub-Family: Small Form Factor MCUs; DatasheetVersion: Rev. 1.7; PackageReference: QFN-20; PackageDescription: 20-Pin Quad-Flat No-Leads Package, Body 4 x 4 mm, Pitch 0.5 mm; Supplier 1: Digi-Key; Supplier Part Number 1: 336-1267-ND; Supplier 2: Mouser; Supplier Part Number 2: 634-C8051F333-GM; Temp Sensor: FALSE; Mounting Technology: Surface Mount; Code_JEDEC: MO-220; Code_IPC: J-STD-020; ComponentLink1Description: Manufacturer URL; ComponentLink1URL: http://www.silabs.com/; ComponentLink2Description: Datasheet; ComponentLink2URL: http://www.silabs.com/Support Documents/TechnicalDocs/C8051F33x.pdf; ComponentLink3Description: Package Specification; ComponentLink3URL: http://www.silabs.com/Support%20Documents/TechnicalDocs/C8051F80x-83x.pdf
footprint SLAB-QFN-20-2125x2125TP_N (QFN, 20-Leads, Body 4x4mm, Pitch 0.5mm, Thermal Pad 2.13x2.13mm, IPC Medium Density)
footprint SLAB-QFN-20-2125x2125TP_L (QFN, 20-Leads, Body 4x4mm, Pitch 0.5mm, Thermal Pad 2.13x2.13mm, IPC High Density)
footprint SLAB-QFN-20-2125x2125TP_M (QFN, 20-Leads, Body 4x4mm, Pitch 0.5mm, Thermal Pad 2.13x2.13mm, IPC Low Density)
pins: 1 P0.0/VREF (io), 2 GND (power) "Ground.", 3 VDD (power) "Power Supply Voltage.", 4 ~{RST}/C2CK (io), 5 P2.0/C2D (io), 6 P1.7 (io) "Port 1.7.", 7 P1.6 (io) "Port 1.6.", 8 P1.5 (io) "Port 1.5.", 9 P1.4 (io) "Port 1.4.", 10 P1.3 (io) "Port 1.3.", 11 P1.2 (io) "Port 1.2.", 12 P1.1 (io) "Port 1.1.", 13 P1.0 (io) "Port 1.0.", 14 P0.7 (io) "Port 0.7.", 15 P0.6/CNVSTR (io), 16 P0.5 (io) "Port 0.5", 17 P0.4 (io) "Port 0.4.", 18 P0.3/XTAL2 (io), 19 P0.2/XTAL1 (io), 20 P0.1/IDA0 (io), 21 GND (power) "Ground.This ground connection is required. The center pad may optionally be connected to ground also."

## C8051F334-GM
designator U?
Mixed-Signal ISP Flash MCU Family, 25 MHz, 0.75 kB RAM, 2 kB Flash, -40 to 85 degC, 20-pin QFN; Manufacturer: Silicon Labs; PartNumber: C8051F334-GM; ADC 1: 10-bit, 16-ch., 200 ksps; AEC-Q100: FALSE; Comparators: 1; Debug Interface: C2; Dig I/O Pins: 17; Flash: 2 kB; Internal Osc. Accuracy: +/-2%; MCU Core: 8051; MHz: 25; PCA Channels: 3; RAM: 0.75 kB; Temp Sensor: TRUE; Timers (16-bit): 4; Sub-Family: Small Form Factor MCUs; DatasheetVersion: Rev. 1.7; PackageReference: QFN-20; PackageDescription: 20-Pin Quad-Flat No-Leads Package, Body 4 x 4 mm, Pitch 0.5 mm; Supplier 1: Digi-Key; Supplier Part Number 1: 336-1268-ND; Supplier 2: Mouser; Supplier Part Number 2: 634-C8051F334-GM; Mounting Technology: Surface Mount; Code_JEDEC: MO-220; Code_IPC: J-STD-020; ComponentLink1Description: Manufacturer URL; ComponentLink1URL: http://www.silabs.com/; ComponentLink2Description: Datasheet; ComponentLink2URL: http://www.silabs.com/Support Documents/TechnicalDocs/C8051F33x.pdf; ComponentLink3Description: Package Specification; ComponentLink3URL: http://www.silabs.com/Support%20Documents/TechnicalDocs/C8051F80x-83x.pdf
footprint SLAB-QFN-20-2125x2125TP_N (QFN, 20-Leads, Body 4x4mm, Pitch 0.5mm, Thermal Pad 2.13x2.13mm, IPC Medium Density)
footprint SLAB-QFN-20-2125x2125TP_L (QFN, 20-Leads, Body 4x4mm, Pitch 0.5mm, Thermal Pad 2.13x2.13mm, IPC High Density)
footprint SLAB-QFN-20-2125x2125TP_M (QFN, 20-Leads, Body 4x4mm, Pitch 0.5mm, Thermal Pad 2.13x2.13mm, IPC Low Density)
pins: 1 P0.0/VREF (io), 2 GND (power) "Ground.", 3 VDD (power) "Power Supply Voltage.", 4 ~{RST}/C2CK (io), 5 P2.0/C2D (io), 6 P1.7 (io) "Port 1.7.", 7 P1.6 (io) "Port 1.6.", 8 P1.5 (io) "Port 1.5.", 9 P1.4 (io) "Port 1.4.", 10 P1.3 (io) "Port 1.3.", 11 P1.2 (io) "Port 1.2.", 12 P1.1 (io) "Port 1.1.", 13 P1.0 (io) "Port 1.0.", 14 P0.7 (io) "Port 0.7.", 15 P0.6/CNVSTR (io), 16 P0.5 (io) "Port 0.5", 17 P0.4 (io) "Port 0.4.", 18 P0.3/XTAL2 (io), 19 P0.2/XTAL1 (io), 20 P0.1/IDA0 (io), 21 GND (power) "Ground.This ground connection is required. The center pad may optionally be connected to ground also."